# Altium footprint library Standard_SMD.PcbLib: 65 footprints (part 5 of 5)
Each footprint in its own frame and in the unit in brackets; x right, y up, seen from the top. Pads: shape width x height; smd on the part's side, far side on the other; paste and mask are expansions set on the pad; w line width, h text height; cw(c..) or ccw(c..) is an arc to the next point about the centre after c.
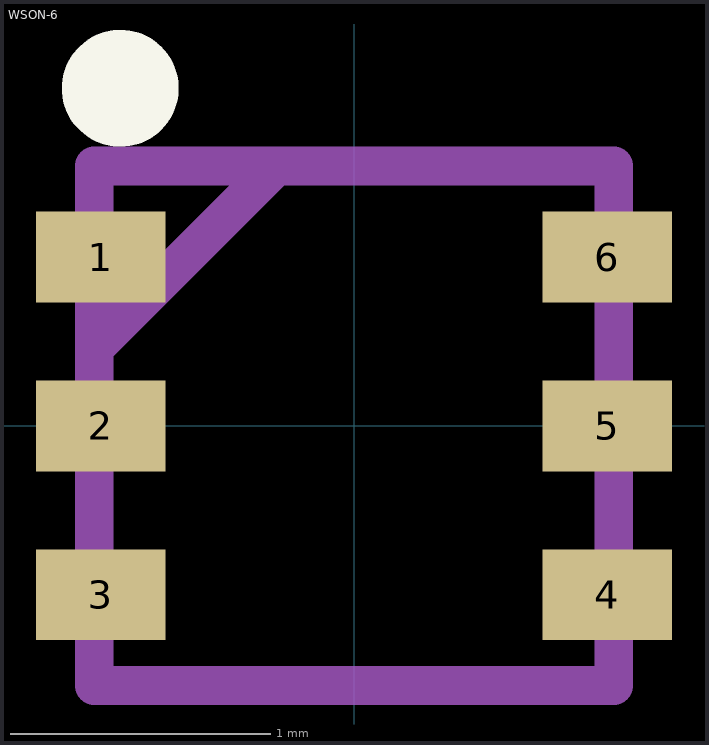
[diagram p4: the footprint, top view; thin cyan lines are the x and y axes]

## WSON-6 [mm]
pads (6):
  rect 0.5x0.35 smd: 1(-0.975,0.65) 2(-0.975,0) 3(-0.975,-0.65) 4(0.975,-0.65) 5(0.975,0) 6(0.975,0.65)
Top Overlay:
  circle w0.25: c-0.9,1.3 r0.1
Top Assembly:
  lines w0.15: -1,0.3 -0.3,1 ; -1,0.5 -1,0.6 ; -1,-1 1,-1 1,1 -1,1 -1,-1
3D body "WSON-6_2x2.step": height 0.85, standoff 0, extent -1.06,-1.05 1.06,1.05